# Altium footprint library PcbLib1.PcbLib: 2 footprints
Each footprint in its own frame and in the unit in brackets; x right, y up, seen from the top. Pads: shape width x height; smd on the part's side, far side on the other; paste and mask are expansions set on the pad; w line width, h text height; cw(c..) or ccw(c..) is an arc to the next point about the centre after c.
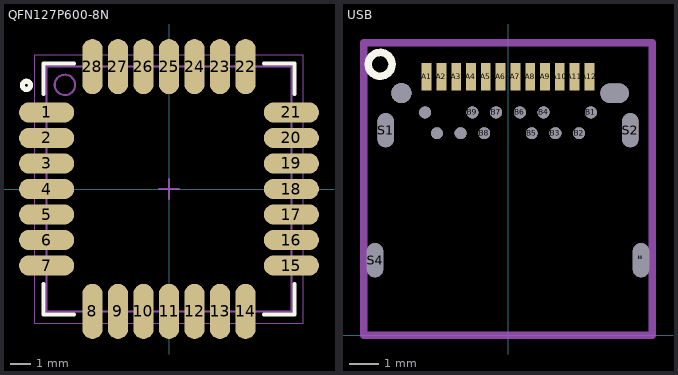
[diagram p0: the footprints below, top view; thin cyan lines are the x and y axes]

## QFN127P600-8N [mm]
height 2.5
pads (28):
  oval 2.7x1 smd mask+0.102: 1(-6,3.75)
  oval 2.7x1 smd: 2(-6,2.5) 3(-6,1.25) 4(-6,0) 5(-6,-1.25) 6(-6,-2.5) 7(-6,-3.75) 15(6,-3.75) 16(6,-2.5) 17(6,-1.25) 18(6,0) 19(6,1.25) 20(6,2.5) 21(6,3.75)
  oval 1x2.7 smd: 8(-3.75,-6) 9(-2.5,-6) 10(-1.25,-6) 11(0,-6) 12(1.25,-6) 13(2.5,-6) 14(3.75,-6) 22(3.75,6) 23(2.5,6) 24(1.25,6) 25(0,6) 26(-1.25,6) 27(-2.5,6) 28(-3.75,6)
Top Overlay:
  circle w0.25: c-6.985,5.08 r0.2
  lines w0.2: -6.15,-4.65 -6.15,-6.15 -4.65,-6.15 ; -6.15,4.65 -6.15,6.15 -4.65,6.15 ; 4.65,-6.15 6.15,-6.15 6.15,-4.65 ; 4.65,6.15 6.15,6.15 6.15,4.65
Mechanical 13:
  circle w0.1: c-5.1,5.1 r0.5
  lines w0.1: -6,-6 -6,6 6,6 6,-6 -6,-6
Mechanical 15:
  lines w0.05: -6.575,-6.575 -6.575,6.575 6.575,6.575 6.575,-6.575 -6.575,-6.575
  lines w0.1: -0.5,0 0.5,0 ; 0,-0.5 0,0.5
3D body: height 2.5, standoff 0.8, extent -6,-6 6,6
3D body: height 0.8, standoff 0, extent -6.575,-6.575 6.575,6.575

## USB [mm]
height 3.31
pads (30):
  oval 0.55x1.15 hole 0.55 slot 1.15 at 90 deg: "\""(4.49,2.53) S1(-4.13,6.92) S2(4.13,6.92) S4(-4.49,2.53)
  rect 0.33x0.93 smd: A1(-2.75,8.73) A2(-2.25,8.73) A3(-1.75,8.73) A4(-1.25,8.73) A5(-0.75,8.73) A6(-0.25,8.73) A7(0.25,8.73) A8(0.75,8.73) A9(1.25,8.73) A10(1.75,8.73) A11(2.25,8.73) A12(2.75,8.73)
  round 0.4 hole 0.4: B1(2.8,7.52) B2(2.4,6.82) B3(1.6,6.82) B4(1.2,7.52) B5(0.8,6.82) B6(0.4,7.52) B7(-0.4,7.52) B8(-0.8,6.82) B9(-1.2,7.52) B10(-1.6,6.82) B11(-2.4,6.82) B12(-2.8,7.52)
  round 0.675 hole 0.675 unplated: ""(-3.6,8.17)
  oval 0.955x0.653 hole 0.653 slot 0.955 at 0 deg unplated: ""(3.6,8.17)
Top Overlay:
  circle w0.254: c-4.318,9.144 r0.402
Mechanical 1:
  lines w0.254: -4.875,0 4.875,0 4.875,9.87 -4.875,9.87 -4.875,0
3D body: height 3.21, standoff 0, extent -4.841,-0.095 4.841,9.835